# EAGLE library part 1888019-4 (library 1888019-4)
Receptacle; Shielded; EVERCLEAR Mini-SAS; Internal; RA Combo; 36 Pos.; Dual Key
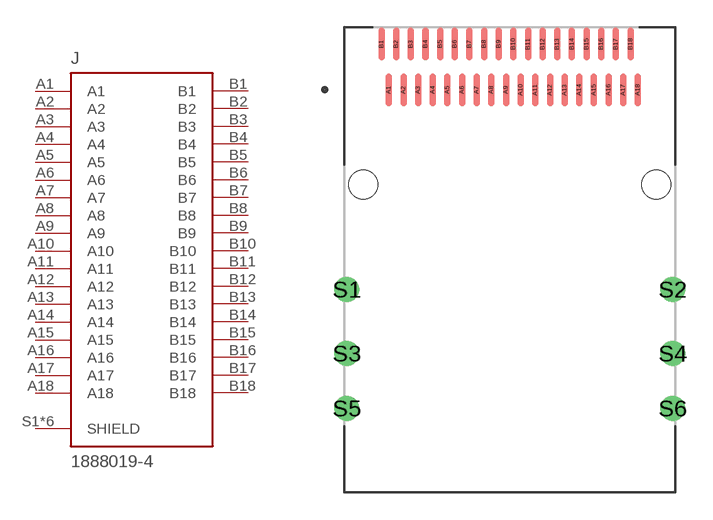
[diagram p0: symbol with the pads of TE_1888019-4; footprint TE_1888019-4]

Designator prefix J

## 1888019-4 (Availability: Unavailable; Comment: 1888019-4; Description: Receptacle; Shielded; EVERCLEAR Mini-SAS; Internal; RA Combo; 36 Pos.; Dual Key; MF: TE Connectivity; MP: 1888019-4; Package: None; Price: None; TE_purchase_URL: https://www.te.com/usa-en/product-1888019-4.html?te_bu=Cor&te_type=disp&te_campaign=seda_glo_cor-seda-global-disp-prtnr-fy19-seda-model-bom-cta_sma-317_1&elqCampaignId=32493)  [TE_1888019-4]
A1  A1  pas
A2  A2  pas
A3  A3  pas
A4  A4  pas
A5  A5  pas
A6  A6  pas
A7  A7  pas
A8  A8  pas
A9  A9  pas
A10  A10  pas
A11  A11  pas
A12  A12  pas
A13  A13  pas
A14  A14  pas
A15  A15  pas
A16  A16  pas
A17  A17  pas
A18  A18  pas
B1  B1  pas
B2  B2  pas
B3  B3  pas
B4  B4  pas
B5  B5  pas
B6  B6  pas
B7  B7  pas
B8  B8  pas
B9  B9  pas
B10  B10  pas
B11  B11  pas
B12  B12  pas
B13  B13  pas
B14  B14  pas
B15  B15  pas
B16  B16  pas
B17  B17  pas
B18  B18  pas
S1  SHIELD  pas
S2  SHIELD  pas
S3  SHIELD  pas
S4  SHIELD  pas
S5  SHIELD  pas
S6  SHIELD  pas

## Footprint TE_1888019-4 (pad centres in mm)
smd 0.35 x 1.8: A1 -6.6,5.18; A2 -5.8,5.18; A3 -5,5.18; A4 -4.2,5.18; A5 -3.4,5.18; A6 -2.6,5.18; A7 -1.8,5.18; A8 -1,5.18; A9 -0.2,5.18; A10 0.6,5.18; A11 1.4,5.18; A12 2.2,5.18; A13 3,5.18; A14 3.8,5.18; A15 4.6,5.18; A16 5.4,5.18; A17 6.2,5.18; A18 7,5.18; B1 -7,7.69; B2 -6.2,7.69; B3 -5.4,7.69; B4 -4.6,7.69; B5 -3.8,7.69; B6 -3,7.69; B7 -2.2,7.69; B8 -1.4,7.69; B9 -0.6,7.69; B10 0.2,7.69; B11 1,7.69; B12 1.8,7.69; B13 2.6,7.69; B14 3.4,7.69; B15 4.2,7.69; B16 5,7.69; B17 5.8,7.69; B18 6.6,7.69
drill 0.85: S1 -8.9,-5.72; S2 8.9,-5.72; S3 -8.9,-9.22; S4 8.9,-9.22; S5 -8.9,-12.22; S6 8.9,-12.22
hole 1.59 at -8,0
hole 1.59 at 8,0